# Altium footprint library D_SOD923.PcbLib: 1 footprints
Each footprint in its own frame and in the unit in brackets; x right, y up, seen from the top. Pads: shape width x height; smd on the part's side, far side on the other; paste and mask are expansions set on the pad; w line width, h text height; cw(c..) or ccw(c..) is an arc to the next point about the centre after c.
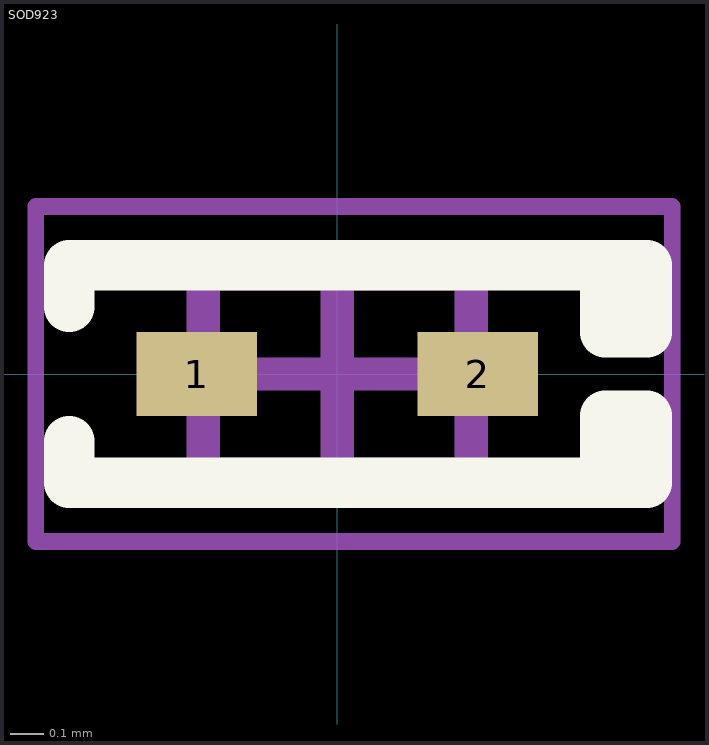
[diagram p0: the footprint, top view; thin cyan lines are the x and y axes]

## SOD923 [mm]
pads (2):
  rect 0.36x0.25 smd: 1(-0.42,0) 2(0.42,0)
Top Overlay:
  lines w0.15: -0.8,-0.2 -0.8,-0.325 0.8,-0.325 ; -0.8,0.2 -0.8,0.325 0.8,0.325 ; 0.8,-0.325 0.925,-0.325 0.925,-0.125 0.8,-0.125 0.8,-0.325 ; 0.8,0.325 0.925,0.325 0.925,0.125 0.8,0.125 0.8,0.325
Mechanical 13:
  lines w0.1: -0.4,-0.3 0.4,-0.3 0.4,0.3 -0.4,0.3 -0.4,-0.3
Mechanical 15:
  lines w0.05: -0.9,-0.5 1,-0.5 1,0.5 -0.9,0.5 -0.9,-0.5
  lines w0.1: -0.25,0 0.25,0 ; 0,-0.25 0,0.25
3D body "SOD-923.step": height 0.44, standoff -0.02, extent -0.495,-0.299 0.495,0.314